# EAGLE library part LT1910 (library linear-technology)
High Side MOSFET Driver - protected
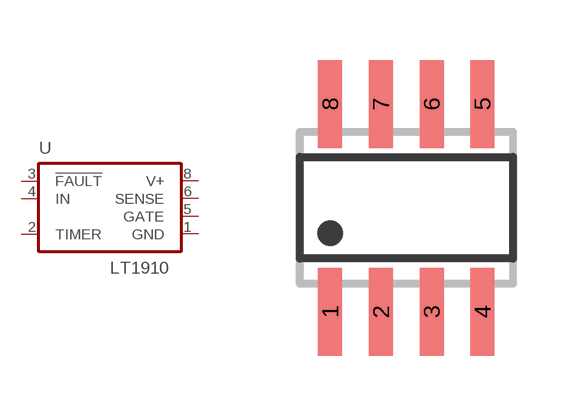
[diagram p10: symbol with the pads of SO08; footprint SO08]

Designator prefix U

## LT1910  [SO08]
1  GND  pwr
2  TIMER  pas
3  !FAULT!  out
4  IN  in
5  GATE  out
6  SENSE  pas
8  V+  in

## Footprint SO08 (pad centres in mm)
SMALL OUTLINE INTEGRATED CIRCUIT body 3.9 mm/JEDEC MS-012AA
smd 0.6 x 2.2: 1 -1.905,-2.6; 2 -0.635,-2.6; 3 0.635,-2.6; 4 1.905,-2.6; 5 1.905,2.6; 6 0.635,2.6; 7 -0.635,2.6; 8 -1.905,2.6